# EAGLE library part PXA270_PBGA (library m-pad-2.1)
Intel® PXA270 Processor PXA270 with PBGA package 23x23 Features: High-performance processor: -Intel XScale® microarchitecture with Intel® Wireless MMX? Technology -7 Stage pipeline -32 KB instruction cache -32 KB data cache -2 KB "mini" data cache -Extensive data buffering 256 Kbytes of internal SRAM for high speed code or data storage preserved during low-power states High-speed baseband processor interface (Mobile Scalable Link) Rich serial peripheral set: -AC?97 audio port -I2S audio port -USB Client controller -USB Host controller -USB On-The-Go controller -Three high-speed UARTs (two with hardware flow control) -FIR and SIR infrared communications port Hardware debug features ? IEEE JTAG interface with boundary scan Hardware performance-monitoring features with on-chip trace buffer Real-time clock Operating-system timers LCD Controller Universal Subscriber Identity Module interface Low power: -Wireless Intel Speedstep® Technology -Less than 500 mW typical internal dissipation -Supply voltage may be reduced to 0.85 V -Four low-power modes -Dynamic voltage and frequencymanagement High-performance memory controller: -Four banks of SDRAM: up to 104 MHz @ 2.5V, 3.0V, and 3.3V I/O interface -Six static chip selects -Support for PCMCIA and Compact Flash -Companion chip interface Flexible clocking: -CPU clock from 104 to 624 MHz -Flexible memory clock ratios -Frequency changes -Functional clock gating Additional peripherals for system connectivity: -SD Card / MMC Controller (with SPI mode support) -Memory Stick card controller -Three SSP controllers -Two I2C controllers -Four pulse-width modulators (PWMs) -Keypad interface with both direct and matrix keys support -Most peripheral pins double as GPIOs Description: The Intel® PXA270 processor (PXA270 processor) provides industry-leading multimedia performance, low-power capabilities, rich peripheral integration and second generation memory stacking. Designed from the ground up for wireless clients, it incorporates the latest Intel advances in mobile technology over its predecessor, the Intel® PXA255 processor. These same attributes and features also make the PXA270 processor ideal for embedded applications. The PXA270 processor redefines scalability by operating from 104 MHz up to 624 MHz, providing enough performance for the most demanding mobile applications. The PXA270 processor is the first Intel processor to include Intel® Wireless MMX? technology, enabling high-performance, low-power multimedia acceleration with a general-purpose instruction set. Intel® Quick Capture technology provides a flexible and powerful camera interface for capturing digital images and video. While performance is key in the PXA270 processor, power consumption is also a critical component. The new capabilities of Wireless Intel SpeedStep® technology set the standard for low-power consumption. The PXA270 processor is offered in two packages: 13x13 mm VFBGA and 23x23 mm PBGA. Please send any comments to: messi@users.sourceforge.net
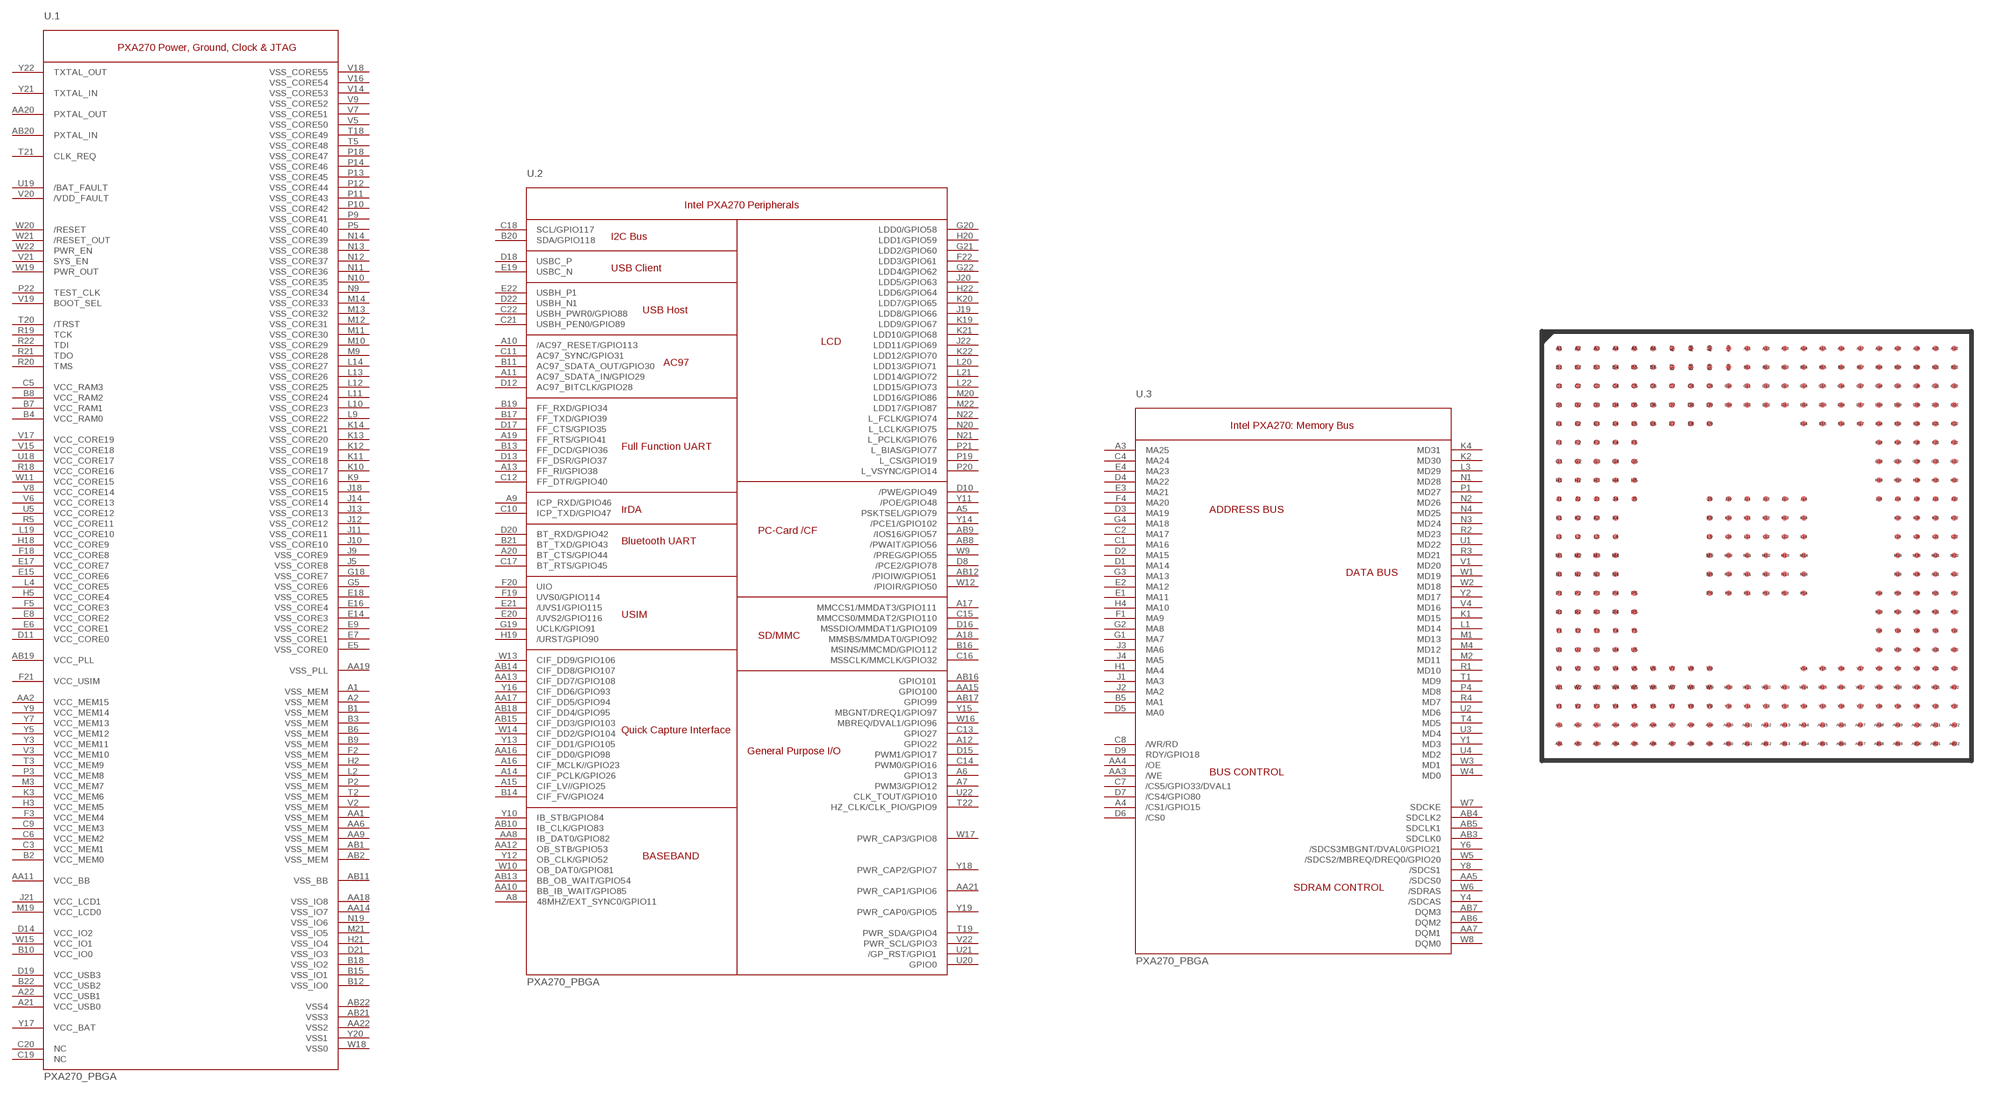
[diagram p27: symbol with the pads of PXA270_PBGA; footprint PXA270_PBGA]

Designator prefix U; gates .2=PXA270_PERIPHERALS .3=PXA_270_MEM_BUS .1=PXA270_PWR_CLK_23X23

## PXA270_PBGA  [PXA270_PBGA]
A1  .1:VSS_MEM
A2  .1:VSS_MEM
A3  .3:MA25  out
A4  .3:/CS1/GPIO15
A5  .2:PSKTSEL/GPIO79
A6  .2:GPIO13
A7  .2:PWM3/GPIO12
A8  .2:48MHZ/EXT_SYNC0/GPIO11
A9  .2:ICP_RXD/GPIO46
A10  .2:/AC97_RESET/GPIO113
A11  .2:AC97_SDATA_IN/GPIO29
A12  .2:GPIO22
A13  .2:FF_RI/GPIO38
A14  .2:CIF_PCLK/GPIO26
A15  .2:CIF_LV//GPIO25
A16  .2:CIF_MCLK//GPIO23
A17  .2:MMCCS1/MMDAT3/GPIO111
A18  .2:MMSBS/MMDAT0/GPIO92
A19  .2:FF_RTS/GPIO41
A20  .2:BT_CTS/GPIO44
A21  .1:VCC_USB0
A22  .1:VCC_USB1
AA1  .1:VSS_MEM
AA2  .1:VCC_MEM15
AA3  .3:/WE  out
AA4  .3:/OE  out
AA5  .3:/SDCS0  out
AA6  .1:VSS_MEM
AA7  .3:DQM1  out
AA8  .2:IB_DAT0/GPIO82
AA9  .1:VSS_MEM
AA10  .2:BB_IB_WAIT/GPIO85
AA11  .1:VCC_BB
AA12  .2:OB_STB/GPIO53
AA13  .2:CIF_DD7/GPIO108
AA14  .1:VSS_IO7
AA15  .2:GPIO100
AA16  .2:CIF_DD0/GPIO98
AA17  .2:CIF_DD5/GPIO94
AA18  .1:VSS_IO8
AA19  .1:VSS_PLL
AA20  .1:PXTAL_OUT
AA21  .2:PWR_CAP1/GPIO6
AA22  .1:VSS2
AB1  .1:VSS_MEM
AB2  .1:VSS_MEM
AB3  .3:SDCLK0  out
AB4  .3:SDCLK2  out
AB5  .3:SDCLK1  out
AB6  .3:DQM2  out
AB7  .3:DQM3  out
AB8  .2:/PWAIT/GPIO56
AB9  .2:/IOS16/GPIO57
AB10  .2:IB_CLK/GPIO83
AB11  .1:VSS_BB
AB12  .2:/PIOIW/GPIO51
AB13  .2:BB_OB_WAIT/GPIO54
AB14  .2:CIF_DD8/GPIO107
AB15  .2:CIF_DD3/GPIO103
AB16  .2:GPIO101
AB17  .2:GPIO99
AB18  .2:CIF_DD4/GPIO95
AB19  .1:VCC_PLL
AB20  .1:PXTAL_IN
AB21  .1:VSS3
AB22  .1:VSS4
B1  .1:VSS_MEM
B2  .1:VCC_MEM0
B3  .1:VSS_MEM
B4  .1:VCC_RAM0
B5  .3:MA1  out
B6  .1:VSS_MEM
B7  .1:VCC_RAM1
B8  .1:VCC_RAM2
B9  .1:VSS_MEM
B10  .1:VCC_IO0
B11  .2:AC97_SDATA_OUT/GPIO30
B12  .1:VSS_IO0
B13  .2:FF_DCD/GPIO36
B14  .2:CIF_FV/GPIO24
B15  .1:VSS_IO1
B16  .2:MSINS/MMCMD/GPIO112
B17  .2:FF_TXD/GPIO39
B18  .1:VSS_IO2
B19  .2:FF_RXD/GPIO34
B20  .2:SDA/GPIO118
B21  .2:BT_TXD/GPIO43
B22  .1:VCC_USB2
C1  .3:MA16  out
C2  .3:MA17  out
C3  .1:VCC_MEM1
C4  .3:MA24  out
C5  .1:VCC_RAM3
C6  .1:VCC_MEM2
C7  .3:/CS5/GPIO33/DVAL1
C8  .3:/WR/RD  out
C9  .1:VCC_MEM3
C10  .2:ICP_TXD/GPIO47
C11  .2:AC97_SYNC/GPIO31
C12  .2:FF_DTR/GPIO40
C13  .2:GPIO27
C14  .2:PWM0/GPIO16
C15  .2:MMCCS0/MMDAT2/GPIO110
C16  .2:MSSCLK/MMCLK/GPIO32
C17  .2:BT_RTS/GPIO45
C18  .2:SCL/GPIO117
C19  .1:NC
C20  .1:NC
C21  .2:USBH_PEN0/GPIO89
C22  .2:USBH_PWR0/GPIO88
D1  .3:MA14  out
D2  .3:MA15  out
D3  .3:MA19  out
D4  .3:MA22  out
D5  .3:MA0  out
D6  .3:/CS0  out
D7  .3:/CS4/GPIO80
D8  .2:/PCE2/GPIO78
D9  .3:RDY/GPIO18
D10  .2:/PWE/GPIO49
D11  .1:VCC_CORE0
D12  .2:AC97_BITCLK/GPIO28
D13  .2:FF_DSR/GPIO37
D14  .1:VCC_IO2
D15  .2:PWM1/GPIO17
D16  .2:MSSDIO/MMDAT1/GPIO109
D17  .2:FF_CTS/GPIO35
D18  .2:USBC_P
D19  .1:VCC_USB3
D20  .2:BT_RXD/GPIO42
D21  .1:VSS_IO3
D22  .2:USBH_N1
E1  .3:MA11  out
E2  .3:MA12  out
E3  .3:MA21  out
E4  .3:MA23  out
E5  .1:VSS_CORE0
E6  .1:VCC_CORE1
E7  .1:VSS_CORE1
E8  .1:VCC_CORE2
E9  .1:VSS_CORE2
E14  .1:VSS_CORE3
E15  .1:VCC_CORE6
E16  .1:VSS_CORE4
E17  .1:VCC_CORE7
E18  .1:VSS_CORE5
E19  .2:USBC_N
E20  .2:/UVS2/GPIO116
E21  .2:/UVS1/GPIO115
E22  .2:USBH_P1
F1  .3:MA9  out
F2  .1:VSS_MEM
F3  .1:VCC_MEM4
F4  .3:MA20  out
F5  .1:VCC_CORE3
F18  .1:VCC_CORE8
F19  .2:UVS0/GPIO114
F20  .2:UIO
F21  .1:VCC_USIM
F22  .2:LDD3/GPIO61
G1  .3:MA7  out
G2  .3:MA8  out
G3  .3:MA13  out
G4  .3:MA18  out
G5  .1:VSS_CORE6
G18  .1:VSS_CORE7
G19  .2:UCLK/GPIO91
G20  .2:LDD0/GPIO58
G21  .2:LDD2/GPIO60
G22  .2:LDD4/GPIO62
H1  .3:MA4  out
H2  .1:VSS_MEM
H3  .1:VCC_MEM5
H4  .3:MA10  out
H5  .1:VCC_CORE4
H18  .1:VCC_CORE9
H19  .2:/URST/GPIO90
H20  .2:LDD1/GPIO59
H21  .1:VSS_IO4
H22  .2:LDD6/GPIO64
J1  .3:MA3  out
J2  .3:MA2  out
J3  .3:MA6  out
J4  .3:MA5  out
J5  .1:VSS_CORE8
J9  .1:VSS_CORE9
J10  .1:VSS_CORE10
J11  .1:VSS_CORE11
J12  .1:VSS_CORE12
J13  .1:VSS_CORE13
J14  .1:VSS_CORE14
J18  .1:VSS_CORE15
J19  .2:LDD8/GPIO66
J20  .2:LDD5/GPIO63
J21  .1:VCC_LCD1
J22  .2:LDD11/GPIO69
K1  .3:MD15
K2  .3:MD30
K3  .1:VCC_MEM6
K4  .3:MD31
K9  .1:VSS_CORE16
K10  .1:VSS_CORE17
K11  .1:VSS_CORE18
K12  .1:VSS_CORE19
K13  .1:VSS_CORE20
K14  .1:VSS_CORE21
K19  .2:LDD9/GPIO67
K20  .2:LDD7/GPIO65
K21  .2:LDD10/GPIO68
K22  .2:LDD12/GPIO70
L1  .3:MD14
L2  .1:VSS_MEM
L3  .3:MD29
L4  .1:VCC_CORE5
L9  .1:VSS_CORE22
L10  .1:VSS_CORE23
L11  .1:VSS_CORE24
L12  .1:VSS_CORE25
L13  .1:VSS_CORE26
L14  .1:VSS_CORE27
L19  .1:VCC_CORE10
L20  .2:LDD13/GPIO71
L21  .2:LDD14/GPIO72
L22  .2:LDD15/GPIO73
M1  .3:MD13
M2  .3:MD11
M3  .1:VCC_MEM7
M4  .3:MD12
M9  .1:VSS_CORE28
M10  .1:VSS_CORE29
M11  .1:VSS_CORE30
M12  .1:VSS_CORE31
M13  .1:VSS_CORE32
M14  .1:VSS_CORE33
M19  .1:VCC_LCD0
M20  .2:LDD16/GPIO86
M21  .1:VSS_IO5
M22  .2:LDD17/GPIO87
N1  .3:MD28
N2  .3:MD26
N3  .3:MD24
N4  .3:MD25
N9  .1:VSS_CORE34
N10  .1:VSS_CORE35
N11  .1:VSS_CORE36
N12  .1:VSS_CORE37
N13  .1:VSS_CORE38
N14  .1:VSS_CORE39
N19  .1:VSS_IO6
N20  .2:L_LCLK/GPIO75
N21  .2:L_PCLK/GPIO76
N22  .2:L_FCLK/GPIO74
P1  .3:MD27
P2  .1:VSS_MEM
P3  .1:VCC_MEM8
P4  .3:MD8
P5  .1:VSS_CORE40
P9  .1:VSS_CORE41
P10  .1:VSS_CORE42
P11  .1:VSS_CORE43
P12  .1:VSS_CORE44
P13  .1:VSS_CORE45
P14  .1:VSS_CORE46
P18  .1:VSS_CORE47
P19  .2:L_CS/GPIO19
P20  .2:L_VSYNC/GPIO14
P21  .2:L_BIAS/GPIO77
P22  .1:TEST_CLK
R1  .3:MD10
R2  .3:MD23
R3  .3:MD21
R4  .3:MD7
R5  .1:VCC_CORE11
R18  .1:VCC_CORE16
R19  .1:TCK
R20  .1:TMS
R21  .1:TDO
R22  .1:TDI
T1  .3:MD9
T2  .1:VSS_MEM
T3  .1:VCC_MEM9
T4  .3:MD5
T5  .1:VSS_CORE48
T18  .1:VSS_CORE49
T19  .2:PWR_SDA/GPIO4
T20  .1:/TRST
T21  .1:CLK_REQ
T22  .2:HZ_CLK/CLK_PIO/GPIO9
U1  .3:MD22
U2  .3:MD6
U3  .3:MD4
U4  .3:MD2
U5  .1:VCC_CORE12
U18  .1:VCC_CORE17
U19  .1:/BAT_FAULT
U20  .2:GPIO0
U21  .2:/GP_RST/GPIO1
U22  .2:CLK_TOUT/GPIO10
V1  .3:MD20
V2  .1:VSS_MEM
V3  .1:VCC_MEM10
V4  .3:MD16
V5  .1:VSS_CORE50
V6  .1:VCC_CORE13
V7  .1:VSS_CORE51
V8  .1:VCC_CORE14
V9  .1:VSS_CORE52
V14  .1:VSS_CORE53
V15  .1:VCC_CORE18
V16  .1:VSS_CORE54
V17  .1:VCC_CORE19
V18  .1:VSS_CORE55
V19  .1:BOOT_SEL
V20  .1:/VDD_FAULT
V21  .1:SYS_EN
V22  .2:PWR_SCL/GPIO3
W1  .3:MD19
W2  .3:MD18
W3  .3:MD1
W4  .3:MD0
W5  .3:/SDCS2/MBREQ/DREQ0/GPIO20
W6  .3:/SDRAS  out
W7  .3:SDCKE  out
W8  .3:DQM0  out
W9  .2:/PREG/GPIO55
W10  .2:OB_DAT0/GPIO81
W11  .1:VCC_CORE15
W12  .2:/PIOIR/GPIO50
W13  .2:CIF_DD9/GPIO106
W14  .2:CIF_DD2/GPIO104
W15  .1:VCC_IO1
W16  .2:MBREQ/DVAL1/GPIO96
W17  .2:PWR_CAP3/GPIO8
W18  .1:VSS0
W19  .1:PWR_OUT
W20  .1:/RESET
W21  .1:/RESET_OUT
W22  .1:PWR_EN
Y1  .3:MD3
Y2  .3:MD17
Y3  .1:VCC_MEM11
Y4  .3:/SDCAS  out
Y5  .1:VCC_MEM12
Y6  .3:/SDCS3MBGNT/DVAL0/GPIO21
Y7  .1:VCC_MEM13
Y8  .3:/SDCS1  out
Y9  .1:VCC_MEM14
Y10  .2:IB_STB/GPIO84
Y11  .2:/POE/GPIO48
Y12  .2:OB_CLK/GPIO52
Y13  .2:CIF_DD1/GPIO105
Y14  .2:/PCE1/GPIO102
Y15  .2:MBGNT/DREQ1/GPIO97
Y16  .2:CIF_DD6/GPIO93
Y17  .1:VCC_BAT
Y18  .2:PWR_CAP2/GPIO7
Y19  .2:PWR_CAP0/GPIO5
Y20  .1:VSS1
Y21  .1:TXTAL_IN
Y22  .1:TXTAL_OUT

## Footprint PXA270_PBGA (pad centres in mm)
23x23 mm PBGA Intel® PXA270 Processor Package 1mm pitch; 0.3 mm diameter Please send any comments to: messi@users.sourceforge.net
smd 0.3 x 0.3: A1 -10.5,10.5; A2 -9.5,10.5; A3 -8.5,10.5; A4 -7.5,10.5; A5 -6.5,10.5; A6 -5.5,10.5; A7 -4.5,10.5; A8 -3.5,10.5; A9 -2.5,10.5; A10 -1.5,10.5; A11 -0.5,10.5; A12 0.5,10.5; A13 1.5,10.5; A14 2.5,10.5; A15 3.5,10.5; A16 4.5,10.5; A17 5.5,10.5; A18 6.5,10.5; A19 7.5,10.5; A20 8.5,10.5; A21 9.5,10.5; A22 10.5,10.5; AA1 -10.5,-9.5; AA2 -9.5,-9.5; AA3 -8.5,-9.5; AA4 -7.5,-9.5; AA5 -6.5,-9.5; AA6 -5.5,-9.5; AA7 -4.5,-9.5; AA8 -3.5,-9.5; AA9 -2.5,-9.5; AA10 -1.5,-9.5; AA11 -0.5,-9.5; AA12 0.5,-9.5; AA13 1.5,-9.5; AA14 2.5,-9.5; AA15 3.5,-9.5; AA16 4.5,-9.5; AA17 5.5,-9.5; AA18 6.5,-9.5; AA19 7.5,-9.5; AA20 8.5,-9.5; AA21 9.5,-9.5; AA22 10.5,-9.5; AB1 -10.5,-10.5; AB2 -9.5,-10.5; AB3 -8.5,-10.5; AB4 -7.5,-10.5; AB5 -6.5,-10.5; AB6 -5.5,-10.5; AB7 -4.5,-10.5; AB8 -3.5,-10.5; AB9 -2.5,-10.5; AB10 -1.5,-10.5; AB11 -0.5,-10.5; AB12 0.5,-10.5; AB13 1.5,-10.5; AB14 2.5,-10.5; AB15 3.5,-10.5; AB16 4.5,-10.5; AB17 5.5,-10.5; AB18 6.5,-10.5; AB19 7.5,-10.5; AB20 8.5,-10.5; AB21 9.5,-10.5; AB22 10.5,-10.5; B1 -10.5,9.5; B2 -9.5,9.5; B3 -8.5,9.5; B4 -7.5,9.5; B5 -6.5,9.5; B6 -5.5,9.5; B7 -4.5,9.5; B8 -3.5,9.5; B9 -2.5,9.5; B10 -1.5,9.5; B11 -0.5,9.5; B12 0.5,9.5; B13 1.5,9.5; B14 2.5,9.5; B15 3.5,9.5; B16 4.5,9.5; B17 5.5,9.5; B18 6.5,9.5; B19 7.5,9.5; B20 8.5,9.5; B21 9.5,9.5; B22 10.5,9.5; C1 -10.5,8.5; C2 -9.5,8.5; C3 -8.5,8.5; C4 -7.5,8.5; C5 -6.5,8.5; C6 -5.5,8.5; C7 -4.5,8.5; C8 -3.5,8.5; C9 -2.5,8.5; C10 -1.5,8.5; C11 -0.5,8.5; C12 0.5,8.5; C13 1.5,8.5; C14 2.5,8.5; C15 3.5,8.5; C16 4.5,8.5; C17 5.5,8.5; C18 6.5,8.5; C19 7.5,8.5; C20 8.5,8.5; C21 9.5,8.5; C22 10.5,8.5; D1 -10.5,7.5; D2 -9.5,7.5; D3 -8.5,7.5; D4 -7.5,7.5; D5 -6.5,7.5; D6 -5.5,7.5; D7 -4.5,7.5; D8 -3.5,7.5; D9 -2.5,7.5; D10 -1.5,7.5; D11 -0.5,7.5; D12 0.5,7.5; D13 1.5,7.5; D14 2.5,7.5; D15 3.5,7.5; D16 4.5,7.5; D17 5.5,7.5; D18 6.5,7.5; D19 7.5,7.5; D20 8.5,7.5; D21 9.5,7.5; D22 10.5,7.5; E1 -10.5,6.5; E2 -9.5,6.5; E3 -8.5,6.5; E4 -7.5,6.5; E5 -6.5,6.5; E6 -5.5,6.5; E7 -4.5,6.5; E8 -3.5,6.5; E9 -2.5,6.5; E14 2.5,6.5; E15 3.5,6.5; E16 4.5,6.5; E17 5.5,6.5; E18 6.5,6.5; E19 7.5,6.5; E20 8.5,6.5; E21 9.5,6.5; E22 10.5,6.5; F1 -10.5,5.5; F2 -9.5,5.5; F3 -8.5,5.5; F4 -7.5,5.5; F5 -6.5,5.5; F18 6.5,5.5; F19 7.5,5.5; F20 8.5,5.5; F21 9.5,5.5; F22 10.5,5.5; G1 -10.5,4.5; G2 -9.5,4.5; G3 -8.5,4.5; G4 -7.5,4.5; G5 -6.5,4.5; G18 6.5,4.5; G19 7.5,4.5; G20 8.5,4.5; G21 9.5,4.5; G22 10.5,4.5; H1 -10.5,3.5; H2 -9.5,3.5; H3 -8.5,3.5; H4 -7.5,3.5; H5 -6.5,3.5; H18 6.5,3.5; H19 7.5,3.5; H20 8.5,3.5; H21 9.5,3.5; H22 10.5,3.5; J1 -10.5,2.5; J2 -9.5,2.5; J3 -8.5,2.5; J4 -7.5,2.5; J5 -6.5,2.5; J9 -2.5,2.5; J10 -1.5,2.5; J11 -0.5,2.5; J12 0.5,2.5; J13 1.5,2.5; J14 2.5,2.5; J18 6.5,2.5; J19 7.5,2.5; J20 8.5,2.5; J21 9.5,2.5; J22 10.5,2.5; K1 -10.5,1.5; K2 -9.5,1.5; K3 -8.5,1.5; K4 -7.5,1.5; K9 -2.5,1.5; K10 -1.5,1.5; K11 -0.5,1.5; K12 0.5,1.5; K13 1.5,1.5; K14 2.5,1.5; K19 7.5,1.5; K20 8.5,1.5; K21 9.5,1.5; K22 10.5,1.5; L1 -10.5,0.5; L2 -9.5,0.5; L3 -8.5,0.5; L4 -7.5,0.5; L9 -2.5,0.5; L10 -1.5,0.5; L11 -0.5,0.5; L12 0.5,0.5; L13 1.5,0.5; L14 2.5,0.5; L19 7.5,0.5; L20 8.5,0.5; L21 9.5,0.5; L22 10.5,0.5; M1 -10.5,-0.5; M2 -9.5,-0.5; M3 -8.5,-0.5; M4 -7.5,-0.5; M9 -2.5,-0.5; M10 -1.5,-0.5; M11 -0.5,-0.5; M12 0.5,-0.5; M13 1.5,-0.5; M14 2.5,-0.5; M19 7.5,-0.5; M20 8.5,-0.5; M21 9.5,-0.5; M22 10.5,-0.5; N1 -10.5,-1.5; N2 -9.5,-1.5; N3 -8.5,-1.5; N4 -7.5,-1.5; N9 -2.5,-1.5; N10 -1.5,-1.5; N11 -0.5,-1.5; N12 0.5,-1.5; N13 1.5,-1.5; N14 2.5,-1.5; N19 7.5,-1.5; N20 8.5,-1.5; N21 9.5,-1.5; N22 10.5,-1.5; P1 -10.5,-2.5; P2 -9.5,-2.5; P3 -8.5,-2.5; P4 -7.5,-2.5; P5 -6.5,-2.5; P9 -2.5,-2.5; P10 -1.5,-2.5; P11 -0.5,-2.5; P12 0.5,-2.5; P13 1.5,-2.5; P14 2.5,-2.5; P18 6.5,-2.5; P19 7.5,-2.5; P20 8.5,-2.5; P21 9.5,-2.5; P22 10.5,-2.5; R1 -10.5,-3.5; R2 -9.5,-3.5; R3 -8.5,-3.5; R4 -7.5,-3.5; R5 -6.5,-3.5; R18 6.5,-3.5; R19 7.5,-3.5; R20 8.5,-3.5; R21 9.5,-3.5; R22 10.5,-3.5; T1 -10.5,-4.5; T2 -9.5,-4.5; T3 -8.5,-4.5; T4 -7.5,-4.5; T5 -6.5,-4.5; T18 6.5,-4.5; T19 7.5,-4.5; T20 8.5,-4.5; T21 9.5,-4.5; T22 10.5,-4.5; U1 -10.5,-5.5; U2 -9.5,-5.5; U3 -8.5,-5.5; U4 -7.5,-5.5; U5 -6.5,-5.5; U18 6.5,-5.5; U19 7.5,-5.5; U20 8.5,-5.5; U21 9.5,-5.5; U22 10.5,-5.5; V1 -10.5,-6.5; V2 -9.5,-6.5; V3 -8.5,-6.5; V4 -7.5,-6.5; V5 -6.5,-6.5; V6 -5.5,-6.5; V7 -4.5,-6.5; V8 -3.5,-6.5; V9 -2.5,-6.5; V14 2.5,-6.5; V15 3.5,-6.5; V16 4.5,-6.5; V17 5.5,-6.5; V18 6.5,-6.5; V19 7.5,-6.5; V20 8.5,-6.5; V21 9.5,-6.5; V22 10.5,-6.5; W1 -10.5,-7.5; W2 -9.5,-7.5; W3 -8.5,-7.5; W4 -7.5,-7.5; W5 -6.5,-7.5; W6 -5.5,-7.5; W7 -4.5,-7.5; W8 -3.5,-7.5; W9 -2.5,-7.5; W10 -1.5,-7.5; W11 -0.5,-7.5; W12 0.5,-7.5; W13 1.5,-7.5; W14 2.5,-7.5; W15 3.5,-7.5; W16 4.5,-7.5; W17 5.5,-7.5; W18 6.5,-7.5; W19 7.5,-7.5; W20 8.5,-7.5; W21 9.5,-7.5; W22 10.5,-7.5; Y1 -10.5,-8.5; Y2 -9.5,-8.5; Y3 -8.5,-8.5; Y4 -7.5,-8.5; Y5 -6.5,-8.5; Y6 -5.5,-8.5; Y7 -4.5,-8.5; Y8 -3.5,-8.5; Y9 -2.5,-8.5; Y10 -1.5,-8.5; Y11 -0.5,-8.5; Y12 0.5,-8.5; Y13 1.5,-8.5; Y14 2.5,-8.5; Y15 3.5,-8.5; Y16 4.5,-8.5; Y17 5.5,-8.5; Y18 6.5,-8.5; Y19 7.5,-8.5; Y20 8.5,-8.5; Y21 9.5,-8.5; Y22 10.5,-8.5